# Altium footprint library TSSOP-20PP.PcbLib: 1 footprints
Each footprint in its own frame and in the unit in brackets; x right, y up, seen from the top. Pads: shape width x height; smd on the part's side, far side on the other; paste and mask are expansions set on the pad; w line width, h text height; cw(c..) or ccw(c..) is an arc to the next point about the centre after c.
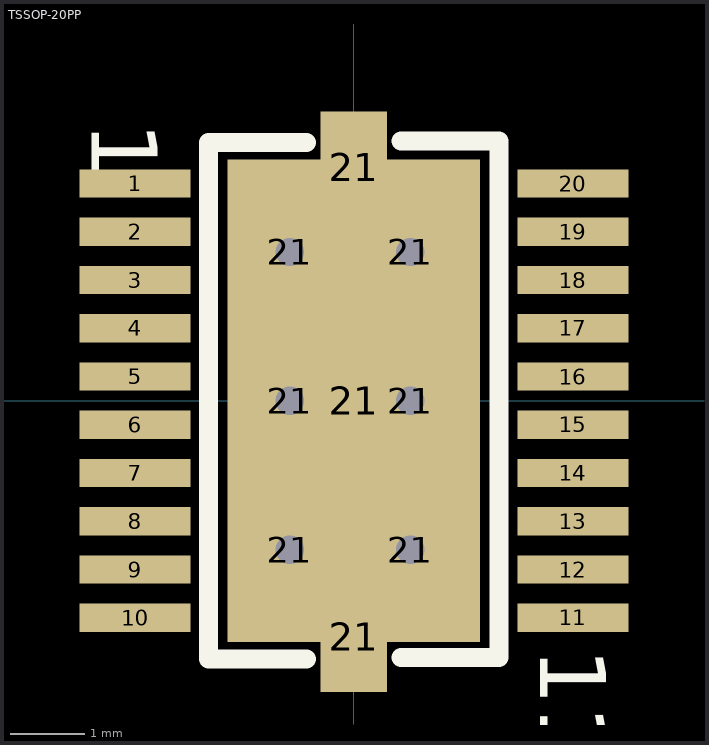
[diagram p0: the footprint, top view; thin cyan lines are the x and y axes]

## TSSOP-20PP [mm] "TI"
height 3.048
pads (29):
  rect 1.5x0.38 smd: 1(-2.946,2.927) 2(-2.946,2.277) 3(-2.946,1.627) 4(-2.946,0.977) 5(-2.946,0.327) 6(-2.946,-0.323) 7(-2.946,-0.973) 8(-2.946,-1.623) 9(-2.946,-2.273) 10(-2.946,-2.923) 11(2.954,-2.923) 12(2.954,-2.273) 13(2.954,-1.623) 14(2.954,-0.973) 15(2.954,-0.323) 16(2.954,0.327) 17(2.954,0.977) 18(2.954,1.627) 19(2.954,2.277) 20(2.954,2.927)
  round 0.762 hole 0.381: 21(-0.864,-2.007) 21(-0.864,0) 21(-0.864,2.007) 21(0.762,-2.007) 21(0.762,0) 21(0.762,2.007)
  rect 0.9x1.5 smd: 21(0,-3.175) 21(0,3.15)
  rect 3.4x6.5 smd: 21(0,0)
TopOverlay:
  lines w0.254: -0.635,-3.48 -1.956,-3.48 -1.956,3.48 -0.635,3.48 ; 0.635,-3.459 1.956,-3.459 1.956,3.501 0.635,3.501
  text "1" at -3.531,3.759 h0.89
  text "11" at 2.515,-3.327 h0.89
3D body: height 1, standoff 0, extent -3.205,-3.245 3.205,3.255